# Altium schematic symbol library LEDs.SchLib: 1 symbol
Pins are listed as number, name and electrical type; pins without a type are passive.

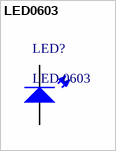
[diagram p0: symbol LED0603]

## LED0603
designator LED?, comment LED 0603
footprint LED 0603
footprint PLCC-2
pins: 1, 2